# EAGLE library part SMD-SIM-HOLDER(6+2P) (library Seeed-OPL-Connector)
320100007
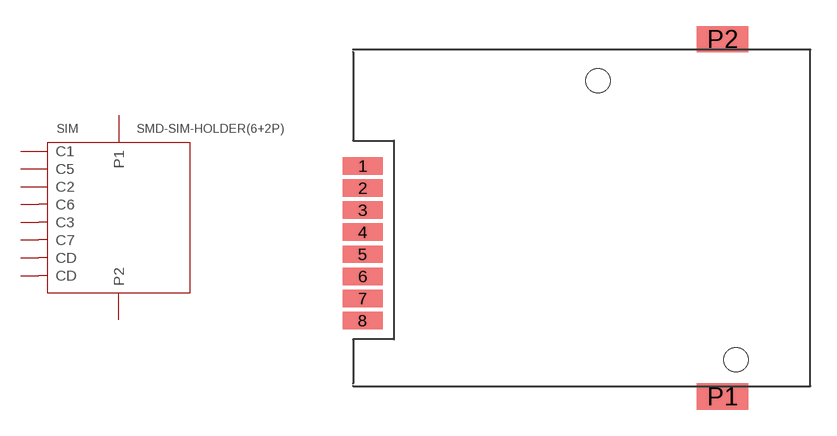
[diagram p152: symbol with the pads of SIM6+2P-26.3X19.35X1.8MM; footprint SIM6+2P-26.3X19.35X1.8MM]

Designator prefix SIM

## SMD-SIM-HOLDER(6+2P) (VALUE: SIM6-26.3X19.35X1.8MM)  [SIM6+2P-26.3X19.35X1.8MM]
1  C1
2  C5
3  C2
4  C6
5  C3
6  C7
7  CD
8  CD
P1  P1
P2  P2

## Footprint SIM6+2P-26.3X19.35X1.8MM (pad centres in mm)
smd 2.3 x 1: 1 -12.6,2.985; 2 -12.6,1.715; 3 -12.6,0.445; 4 -12.6,-0.825; 5 -12.6,-2.095; 6 -12.6,-3.365; 7 -12.6,-4.635; 8 -12.6,-5.905
smd 2.95 x 1.5: P1 8.1,-10.275; P2 8.1,10.275
hole 1.4 at 0.93,7.885
hole 1.4 at 8.87,-8.165